# Altium footprint library trafo.PCBLIB: 80 footprints (part 1 of 5)
Each footprint in its own frame and in the unit in brackets; x right, y up, seen from the top. Pads: shape width x height; smd on the part's side, far side on the other; paste and mask are expansions set on the pad; w line width, h text height; cw(c..) or ccw(c..) is an arc to the next point about the centre after c.
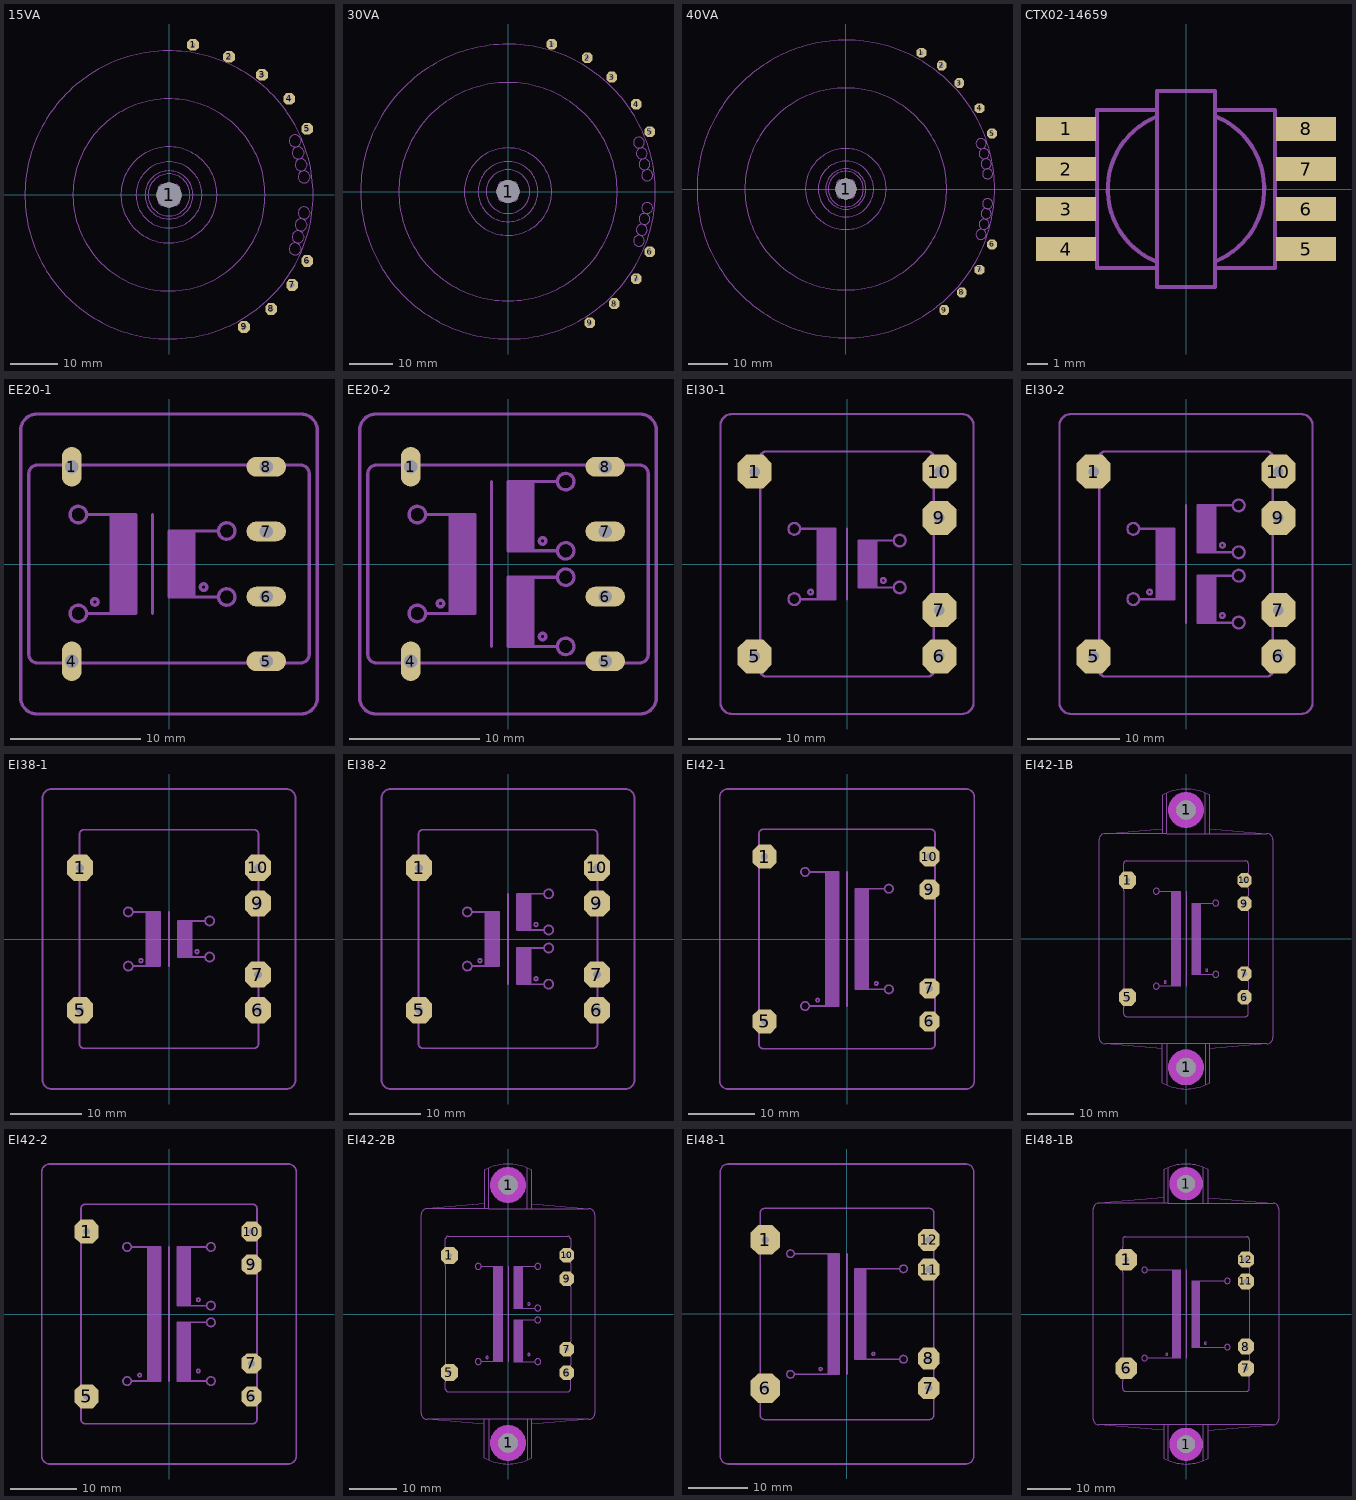
[diagram p0: the footprints below, top view; thin cyan lines are the x and y axes]

## 15VA [mil]
pads (10):
  round 209 hole 209: 1(0,0)
  oct 96.82x96.82 hole 40: 1(200,1250) 2(500,1150) 3(775,1000) 4(1000,800) 5(1150,550) 6(1150,-550) 7(1025,-750) 8(850,-950) 9(625,-1100)
Mechanical 2:
  circle w6: c0,0 r400
  circle w6: c0,0 r275
  circle w6: c0,0 r1200
  circle w6: c0,0 r800
Mechanical 18:
  circle w10: c0,0 r200
  circle w6: c0,0 r175
  circle w6: c1050,450 r50
  circle w6: c1075,350 r50
  circle w6: c1100,250 r50
  circle w6: c1125,150 r50
  circle w6: c1050,-450 r50
  circle w6: c1125,-150 r50
  circle w6: c1100,-250 r50
  circle w6: c1075,-350 r50
  lines w6: -90,-65 -65,-90 ; -90,-65 -50,0 ; -90,-65 -45,-30 ; -90,65 -65,90 ; -90,65 -50,0 ; -90,65 -45,30 ; -65,-90 0,-50 ; -65,-90 -30,-45 ; -65,90 0,50 ; -65,90 -30,45 ; -50,0 -25,0 ; -45,-30 -25,0 ; -45,-30 -30,-45 ; -45,30 -25,0 ; -45,30 -30,45 ; -30,-45 0,-25 ; -30,45 0,25 ; 0,-50 65,-90 ; 0,-50 0,-25 ; 0,-25 30,-45 ; 0,25 0,50 ; 0,25 30,45 ; 0,50 65,90 ; 25,0 50,0 ; 25,0 45,-30 ; 25,0 45,30 ; 30,-45 65,-90 ; 30,-45 45,-30 ; 30,45 65,90 ; 30,45 45,30 ; 45,-30 90,-65 ; 45,30 90,65 ; 50,0 90,-65 ; 50,0 90,65 ; 65,-90 90,-65 ; 65,90 90,65

## 30VA [mil]
pads (10):
  round 209 hole 209: 1(0,0)
  oct 96.82x96.82 hole 40: 1(400,1350) 2(725,1225) 3(950,1050) 4(1175,800) 5(1300,550) 6(1300,-550) 7(1175,-800) 8(975,-1025) 9(750,-1200)
Mechanical 2:
  circle w6: c0,0 r1000
  circle w6: c0,0 r400
  circle w6: c0,0 r275
  circle w6: c0,0 r1350
Mechanical 18:
  circle w10: c0,0 r200
  circle w6: c1200,450 r50
  circle w6: c1225,350 r50
  circle w6: c1250,250 r50
  circle w6: c1275,150 r50
  circle w6: c1200,-450 r50
  circle w6: c1275,-150 r50
  circle w6: c1250,-250 r50
  circle w6: c1225,-350 r50
  lines w6: -90,-65 -65,-90 ; -90,-65 -50,0 ; -90,-65 -45,-30 ; -90,65 -65,90 ; -90,65 -50,0 ; -90,65 -45,30 ; -65,-90 0,-50 ; -65,-90 -30,-45 ; -65,90 0,50 ; -65,90 -30,45 ; -50,0 -25,0 ; -45,-30 -25,0 ; -45,-30 -30,-45 ; -45,30 -25,0 ; -45,30 -30,45 ; -30,-45 0,-25 ; -30,45 0,25 ; 0,-50 65,-90 ; 0,-50 0,-25 ; 0,-25 30,-45 ; 0,25 0,50 ; 0,25 30,45 ; 0,50 65,90 ; 25,0 50,0 ; 25,0 45,-30 ; 25,0 45,30 ; 30,-45 65,-90 ; 30,-45 45,-30 ; 30,45 65,90 ; 30,45 45,30 ; 45,-30 90,-65 ; 45,30 90,65 ; 50,0 90,-65 ; 50,0 90,65 ; 65,-90 90,-65 ; 65,90 90,65

## 40VA [mil]
pads (10):
  round 209 hole 209: 1(0,0)
  oct 96.82x96.82 hole 40: 1(750,1350) 2(950,1225) 3(1125,1050) 4(1325,800) 5(1450,550) 6(1450,-550) 7(1325,-800) 8(1150,-1025) 9(975,-1200)
Mechanical 2:
  circle w6: c0,0 r1000
  circle w6: c0,0 r400
  circle w6: c0,0 r275
  circle w6: c0,0 r1475
Mechanical 18:
  circle w10: c0,0 r200
  circle w6: c0,0 r175
  circle w6: c1340,450 r50
  circle w6: c1370,350 r50
  circle w6: c1390,250 r50
  circle w6: c1405,150 r50
  circle w6: c1340,-450 r50
  circle w6: c1405,-145 r50
  circle w6: c1390,-245 r50
  circle w6: c1370,-350 r50
  lines w6: -90,-65 -65,-90 ; -90,-65 -50,0 ; -90,-65 -45,-30 ; -90,65 -65,90 ; -90,65 -50,0 ; -90,65 -45,30 ; -65,-90 0,-50 ; -65,-90 -30,-45 ; -65,90 0,50 ; -65,90 -30,45 ; -50,0 -25,0 ; -45,-30 -25,0 ; -45,-30 -30,-45 ; -45,30 -25,0 ; -45,30 -30,45 ; -30,-45 0,-25 ; -30,45 0,25 ; 0,-50 65,-90 ; 0,-50 0,-25 ; 0,-25 30,-45 ; 0,25 0,50 ; 0,25 30,45 ; 0,50 65,90 ; 25,0 50,0 ; 25,0 45,-30 ; 25,0 45,30 ; 30,-45 65,-90 ; 30,-45 45,-30 ; 30,45 65,90 ; 30,45 45,30 ; 45,-30 90,-65 ; 45,30 90,65 ; 50,0 90,-65 ; 50,0 90,65 ; 65,-90 90,-65 ; 65,90 90,65

## CTX02-14659 [mm]
pads (8):
  rect 3x1.2 smd: 1(-6,3) 2(-6,1) 3(-6,-1) 4(-6,-3) 5(6,-3) 6(6,-1) 7(6,1) 8(6,3)
Mechanical 2:
  lines w0.203: -4.45,-3.95 -1.55,-3.95 ; -4.45,3.95 -1.45,3.95 ; 1.55,-3.95 4.45,-3.95 ; 4.45,3.95 1.45,3.95 ; -1.45,3.95 -1.45,-4.9 1.45,-4.9 1.45,3.95 ; -1.45,3.95 -1.45,4.9 1.45,4.9 1.45,3.95
Mechanical 18:
  rectangle: -6,2.725 -4.5,3.275
  rectangle: -6,0.725 -4.5,1.275
  rectangle: -6,-1.275 -4.5,-0.725
  rectangle: -6,-3.275 -4.5,-2.725
  region: 6,-2.725 4.5,-2.725 4.5,-3.275 6,-3.275
  region: 6,-0.725 4.5,-0.725 4.5,-1.275 6,-1.275
  region: 6,1.275 4.5,1.275 4.5,0.725 6,0.725
  region: 6,3.275 4.5,3.275 4.5,2.725 6,2.725
  lines w0.203: -4.45,-3.95 -4.45,3.95 ; -1.5,-3.625 cw(c0,-0.01) -1.45,3.625 ; 1.45,-3.625 ccw(c0,0.01) 1.5,3.625 ; 4.45,-3.95 4.45,3.95

## EE20-1 [mil]
pads (6):
  oval 60x120 hole 40: 1(-295,295) 4(-295,-295)
  oval 120x60 hole 40: 5(295,-295) 6(295,-99) 7(295,99) 8(295,295)
Mechanical 2:
  circle w10: c-225,-115 r10
  circle w10: c-275,150 r25
  circle w10: c-275,-150 r25
  circle w10: c105,-70 r10
  circle w10: c175,-100 r25
  circle w10: c175,100 r25
  rectangle: -175,-150 -100,150
  rectangle: 0,-100 75,100
  lines w10: -375,-300 -400,-300 cw(c-400,-275) -425,-275 -425,275 cw(c-400,275) -400,300 -375,300 ; -250,-150 -175,-150 ; -250,150 -175,150 ; -215,-300 215,-300 ; -215,300 215,300 ; -50,-150 -50,150 ; 150,-100 75,-100 ; 150,100 75,100 ; 375,-300 400,-300 ccw(c400,-275) 425,-275 425,275 ccw(c400,275) 400,300 375,300 ; -175,-150 -175,150 ; -175,-150 -100,-150 -100,150 -175,150 ; 75,-100 0,-100 0,100 75,100 ; 75,-100 75,100 ; -450,-405 ccw(c-400,-405) -400,-455 400,-455 ccw(c400,-405) 450,-405 450,405 ccw(c400,405) 400,455 -400,455 ccw(c-400,405) -450,405 -450,-405
Mechanical 18:
  lines w10: -375,-300 -215,-300 ; -375,300 -215,300 ; 215,-300 375,-300 ; 215,300 375,300

## EE20-2 [mil]
pads (6):
  oval 60x120 hole 40: 1(-295,295) 4(-295,-295)
  oval 120x60 hole 40: 5(295,-295) 6(295,-99) 7(295,99) 8(295,295)
Mechanical 2:
  circle w10: c-205,-120 r10
  circle w10: c105,70 r10
  circle w10: c-275,150 r25
  circle w10: c-275,-150 r25
  circle w10: c175,40 r25
  circle w10: c175,250 r25
  circle w10: c105,-220 r10
  circle w10: c175,-250 r25
  circle w10: c175,-40 r25
  rectangle: -175,-150 -100,150
  rectangle: 0,-250 75,-40
  rectangle: 0,40 75,250
  lines w10: -375,-300 -400,-300 cw(c-400,-275) -425,-275 -425,275 cw(c-400,275) -400,300 -375,300 ; -250,-150 -175,-150 ; -250,150 -175,150 ; -215,-300 215,-300 ; -215,300 215,300 ; -50,-250 -50,250 ; 150,-250 75,-250 ; 150,-40 75,-40 ; 150,40 75,40 ; 150,250 75,250 ; 375,-300 400,-300 ccw(c400,-275) 425,-275 425,275 ccw(c400,275) 400,300 375,300 ; -175,-150 -175,150 ; -175,-150 -100,-150 -100,150 -175,150 ; 75,-250 0,-250 0,-40 75,-40 ; 75,-250 75,-40 ; 75,40 0,40 0,250 75,250 ; 75,40 75,250 ; -450,-405 ccw(c-400,-405) -400,-455 400,-455 ccw(c400,-405) 450,-405 450,405 ccw(c400,405) 400,455 -400,455 ccw(c-400,405) -450,405 -450,-405
Mechanical 18:
  lines w10: -375,-300 -215,-300 ; -375,300 -215,300 ; 215,-300 375,-300 ; 215,300 375,300

## EI30-1 [mil]
pads (6):
  oct 145.24x145.24 hole 44: 1(-394,394) 5(-394,-394) 6(394,-394) 7(394,-197) 9(394,197) 10(394,394)
Mechanical 2:
  circle w10: c-155,-120 r10
  circle w10: c155,-70 r10
  circle w10: c-225,150 r25
  circle w10: c-225,-150 r25
  circle w10: c225,-100 r25
  circle w10: c225,100 r25
  rectangle: -125,-150 -50,150
  rectangle: 50,-100 125,100
  lines w10: -370,-310 -370,310 ; -345,-480 345,-480 ; -345,480 345,480 ; -200,-150 -125,-150 ; -200,150 -125,150 ; 0,-150 0,150 ; 200,-100 125,-100 ; 200,100 125,100 ; 370,-315 370,-280 ; 370,-115 370,115 ; 370,280 370,310 ; -125,-150 -125,150 ; -125,-150 -50,-150 -50,150 -125,150 ; 125,-100 50,-100 50,100 125,100 ; 125,-100 125,100 ; -540,-590 ccw(c-490,-590) -490,-640 490,-640 ccw(c490,-590) 540,-590 540,590 ccw(c490,590) 490,640 -490,640 ccw(c-490,590) -540,590 -540,-590
Mechanical 18:
  lines w10: -370,-310 -370,-455 ccw(c-345,-455) -345,-480 ; -370,310 -370,455 cw(c-345,455) -345,480 ; 345,-480 ccw(c345,-455) 370,-455 370,-315 ; 345,480 cw(c345,455) 370,455 370,310 ; 370,-280 370,-115 ; 370,115 370,280

## EI30-2 [mil]
pads (6):
  oct 145.24x145.24 hole 44: 1(-394,394) 5(-394,-394) 6(394,-394) 7(394,-197) 9(394,197) 10(394,394)
Mechanical 2:
  circle w10: c-155,-120 r10
  circle w10: c155,80 r10
  circle w10: c-225,150 r25
  circle w10: c-225,-150 r25
  circle w10: c225,50 r25
  circle w10: c225,250 r25
  circle w10: c155,-220 r10
  circle w10: c225,-250 r25
  circle w10: c225,-50 r25
  rectangle: -125,-150 -50,150
  rectangle: 50,50 125,250
  rectangle: 50,-250 125,-50
  lines w10: -370,-310 -370,310 ; -345,-480 345,-480 ; -345,480 345,480 ; -200,-150 -125,-150 ; -200,150 -125,150 ; 0,-250 0,250 ; 200,-250 125,-250 ; 200,-50 125,-50 ; 200,50 125,50 ; 200,250 125,250 ; 370,-315 370,-280 ; 370,-115 370,115 ; 370,280 370,310 ; -125,-150 -125,150 ; -125,-150 -50,-150 -50,150 -125,150 ; 125,-250 50,-250 50,-50 125,-50 ; 125,-250 125,-50 ; 125,50 50,50 50,250 125,250 ; 125,50 125,250 ; -540,-590 ccw(c-490,-590) -490,-640 490,-640 ccw(c490,-590) 540,-590 540,590 ccw(c490,590) 490,640 -490,640 ccw(c-490,590) -540,590 -540,-590
Mechanical 18:
  lines w10: -370,-310 -370,-455 ccw(c-345,-455) -345,-480 ; -370,310 -370,455 cw(c-345,455) -345,480 ; 345,-480 ccw(c345,-455) 370,-455 370,-315 ; 345,480 cw(c345,455) 370,455 370,310 ; 370,-280 370,-115 ; 370,115 370,280

## EI38-1 [mil]
pads (6):
  oct 145.24x145.24 hole 44: 1(-492,394) 5(-492,-394) 6(492,-394) 7(492,-197) 9(492,197) 10(492,394)
Mechanical 2:
  circle w10: c-155,-120 r10
  circle w10: c-225,150 r25
  circle w10: c-225,-150 r25
  circle w10: c155,-70 r10
  circle w10: c225,-100 r25
  circle w10: c225,100 r25
  rectangle: -125,-150 -50,150
  rectangle: 50,-100 125,100
  lines w10: -495,-475 -495,-580 ccw(c-470,-580) -470,-605 470,-605 ccw(c470,-580) 495,-580 495,-480 ; -495,-310 -495,310 ; -495,480 -495,580 cw(c-470,580) -470,605 470,605 cw(c470,580) 495,580 495,480 ; -200,-150 -125,-150 ; -200,150 -125,150 ; 0,-150 0,150 ; 200,-100 125,-100 ; 200,100 125,100 ; 495,-315 495,-280 ; 495,-115 495,115 ; 495,280 495,310 ; -125,-150 -125,150 ; -125,-150 -50,-150 -50,150 -125,150 ; 125,-100 50,-100 50,100 125,100 ; 125,-100 125,100 ; -700,-780 ccw(c-650,-780) -650,-830 650,-830 ccw(c650,-780) 700,-780 700,780 ccw(c650,780) 650,830 -650,830 ccw(c-650,780) -700,780 -700,-780
Mechanical 18:
  lines w10: -495,-475 -495,-310 ; -495,310 -495,480 ; 495,-480 495,-315 ; 495,-280 495,-115 ; 495,115 495,280 ; 495,310 495,480

## EI38-2 [mil]
pads (6):
  oct 145.24x145.24 hole 44: 1(-492,394) 5(-492,-394) 6(492,-394) 7(492,-197) 9(492,197) 10(492,394)
Mechanical 2:
  circle w10: c-155,-120 r10
  circle w10: c155,80 r10
  circle w10: c-225,150 r25
  circle w10: c-225,-150 r25
  circle w10: c225,50 r25
  circle w10: c225,250 r25
  circle w10: c155,-220 r10
  circle w10: c225,-250 r25
  circle w10: c225,-50 r25
  rectangle: -125,-150 -50,150
  rectangle: 50,50 125,250
  rectangle: 50,-250 125,-50
  lines w10: -495,-475 -495,-580 ccw(c-470,-580) -470,-605 470,-605 ccw(c470,-580) 495,-580 495,-480 ; -495,-310 -495,310 ; -495,480 -495,580 cw(c-470,580) -470,605 470,605 cw(c470,580) 495,580 495,480 ; -200,-150 -125,-150 ; -200,150 -125,150 ; 0,-250 0,250 ; 200,-250 125,-250 ; 200,-50 125,-50 ; 200,50 125,50 ; 200,250 125,250 ; 495,-315 495,-280 ; 495,-115 495,115 ; 495,280 495,310 ; -125,-150 -125,150 ; -125,-150 -50,-150 -50,150 -125,150 ; 125,-250 50,-250 50,-50 125,-50 ; 125,-250 125,-50 ; 125,50 50,50 50,250 125,250 ; 125,50 125,250 ; -700,-780 ccw(c-650,-780) -650,-830 650,-830 ccw(c650,-780) 700,-780 700,780 ccw(c650,780) 650,830 -650,830 ccw(c-650,780) -700,780 -700,-780
Mechanical 18:
  lines w10: -495,-475 -495,-310 ; -495,310 -495,480 ; 495,-480 495,-315 ; 495,-280 495,-115 ; 495,115 495,280 ; 495,310 495,480

## EI42-1 [mil]
pads (6):
  oct 145.24x145.24 hole 44: 1(-492,492) 5(-492,-492)
  oct 121.03x121.03 hole 44: 6(492,-492) 7(492,-295) 9(492,295) 10(492,492)
Mechanical 2:
  circle w10: c-175,-365 r10
  circle w10: c175,-265 r10
  circle w10: c-250,400 r25
  circle w10: c-250,-400 r25
  circle w10: c250,-300 r25
  circle w10: c250,300 r25
  rectangle: -125,-400 -50,400
  rectangle: 50,-300 125,300
  lines w10: -525,-575 -525,-630 ccw(c-500,-630) -500,-655 500,-655 ccw(c500,-630) 525,-630 525,-560 ; -525,-405 -525,405 ; -525,575 -525,630 cw(c-500,630) -500,655 500,655 cw(c500,630) 525,630 525,560 ; -225,-400 -125,-400 ; -225,400 -125,400 ; 0,-400 0,400 ; 225,-300 125,-300 ; 225,300 125,300 ; 525,-425 525,-360 ; 525,-230 525,230 ; 525,360 525,425 ; -125,-400 -125,400 ; -125,-400 -50,-400 -50,400 -125,400 ; 125,-300 50,-300 50,300 125,300 ; 125,-300 125,300 ; -760,-845 ccw(c-710,-845) -710,-895 710,-895 ccw(c710,-845) 760,-845 760,845 ccw(c710,845) 710,895 -710,895 ccw(c-710,845) -760,845 -760,-845
Mechanical 18:
  lines w10: -525,-575 -525,-405 ; -525,405 -525,575 ; 525,-560 525,-425 ; 525,-360 525,-230 ; 525,230 525,360 ; 525,425 525,560

## EI42-1B [mil]
pads (8):
  oct 145.24x145.24 hole 44: 1(-492,492) 5(-492,-492)
  round 162 hole 162: 1(0,-1083) 1(0,1083)
  oct 121.03x121.03 hole 44: 6(492,-492) 7(492,-295) 9(492,295) 10(492,492)
Mechanical 2:
  circle w10: c-175,-365 r10
  circle w10: c175,-265 r10
  circle w10: c-250,400 r25
  circle w10: c-250,-400 r25
  circle w10: c250,-300 r25
  circle w10: c250,300 r25
  rectangle: -125,-400 -50,400
  rectangle: 50,-300 125,300
  lines w10: -525,-575 -525,-630 ccw(c-500,-630) -500,-655 500,-655 ccw(c500,-630) 525,-630 525,-560 ; -525,-405 -525,405 ; -525,575 -525,630 cw(c-500,630) -500,655 500,655 cw(c500,630) 525,630 525,560 ; -225,-400 -125,-400 ; -225,400 -125,400 ; -160,-1230 -160,-885 ; -160,1225 -160,885 ; 0,-400 0,400 ; 160,-1230 160,-885 ; 160,1225 160,885 ; 225,-300 125,-300 ; 225,300 125,300 ; 525,-425 525,-360 ; 525,-230 525,230 ; 525,360 525,425 ; -680,-885 cw(c-680,-835) -730,-835 -730,835 cw(c-680,835) -680,885 ; -680,-885 -200,-885 ; -680,-885 -200,-925 ; -680,885 -200,885 ; -680,885 -200,925 ; -200,-925 -200,-1211 ccw(c0,-865) 200,-1211 200,-925 ; -200,-925 -200,-885 ; -200,-885 -160,-885 ; -200,885 -160,885 ; -200,885 -200,925 ; -200,925 -200,1206 cw(c0,860) 200,1206 200,925 ; -160,-885 160,-885 ; -160,885 160,885 ; -125,-400 -125,400 ; -125,-400 -50,-400 -50,400 -125,400 ; 125,-300 50,-300 50,300 125,300 ; 125,-300 125,300 ; 160,-885 200,-885 ; 160,885 200,885 ; 200,-925 680,-885 ; 200,-925 200,-885 ; 200,-885 680,-885 ; 200,885 200,925 ; 200,885 680,885 ; 200,925 680,885 ; 680,-885 ccw(c680,-835) 730,-835 730,835 ccw(c680,835) 680,885
Mechanical 11 keep-out:
  circle w70: c0,-1083 r115
  circle w70: c0,1083 r115
Mechanical 12:
  circle w70: c0,-1083 r115
  circle w70: c0,1083 r115
Mechanical 18:
  lines w10: -525,-575 -525,-405 ; -525,405 -525,575 ; 525,-560 525,-425 ; 525,-360 525,-230 ; 525,230 525,360 ; 525,425 525,560

## EI42-2 [mil]
pads (6):
  oct 145.24x145.24 hole 44: 1(-492,492) 5(-492,-492)
  oct 121.03x121.03 hole 44: 6(492,-492) 7(492,-295) 9(492,295) 10(492,492)
Mechanical 2:
  circle w10: c-175,-365 r10
  circle w10: c175,85 r10
  circle w10: c-250,400 r25
  circle w10: c-250,-400 r25
  circle w10: c250,50 r25
  circle w10: c250,400 r25
  circle w10: c250,-50 r25
  circle w10: c250,-400 r25
  circle w10: c175,-340 r10
  rectangle: -125,-400 -50,400
  rectangle: 50,-400 125,-50
  rectangle: 50,50 125,400
  lines w10: -525,-575 -525,-630 ccw(c-500,-630) -500,-655 500,-655 ccw(c500,-630) 525,-630 525,-560 ; -525,-405 -525,405 ; -525,575 -525,630 cw(c-500,630) -500,655 500,655 cw(c500,630) 525,630 525,560 ; -225,-400 -125,-400 ; -225,400 -125,400 ; 0,-400 0,400 ; 225,-400 125,-400 ; 225,-50 125,-50 ; 225,50 125,50 ; 225,400 125,400 ; 525,-425 525,-360 ; 525,-230 525,230 ; 525,360 525,425 ; -125,-400 -125,400 ; -125,-400 -50,-400 -50,400 -125,400 ; 125,-400 50,-400 50,-50 125,-50 ; 125,-400 125,-50 ; 125,50 50,50 50,400 125,400 ; 125,50 125,400 ; -760,-845 ccw(c-710,-845) -710,-895 710,-895 ccw(c710,-845) 760,-845 760,845 ccw(c710,845) 710,895 -710,895 ccw(c-710,845) -760,845 -760,-845
Mechanical 18:
  lines w10: -525,-575 -525,-405 ; -525,405 -525,575 ; 525,-560 525,-425 ; 525,-360 525,-230 ; 525,230 525,360 ; 525,425 525,560

## EI42-2B [mil]
pads (8):
  oct 145.24x145.24 hole 44: 1(-492,492) 5(-492,-492)
  round 162 hole 162: 1(0,-1083) 1(0,1083)
  oct 121.03x121.03 hole 44: 6(492,-492) 7(492,-295) 9(492,295) 10(492,492)
Mechanical 2:
  circle w10: c-175,-365 r10
  circle w10: c175,85 r10
  circle w10: c-250,400 r25
  circle w10: c-250,-400 r25
  circle w10: c250,50 r25
  circle w10: c250,400 r25
  circle w10: c250,-50 r25
  circle w10: c250,-400 r25
  circle w10: c175,-340 r10
  rectangle: -125,-400 -50,400
  rectangle: 50,-400 125,-50
  rectangle: 50,50 125,400
  lines w10: -525,-575 -525,-630 ccw(c-500,-630) -500,-655 500,-655 ccw(c500,-630) 525,-630 525,-560 ; -525,-405 -525,405 ; -525,575 -525,630 cw(c-500,630) -500,655 500,655 cw(c500,630) 525,630 525,560 ; -225,-400 -125,-400 ; -225,400 -125,400 ; -160,-1225 -160,-885 ; -160,1225 -160,885 ; 0,-400 0,400 ; 160,-1225 160,-885 ; 160,1225 160,885 ; 225,-400 125,-400 ; 225,-50 125,-50 ; 225,50 125,50 ; 225,400 125,400 ; 525,-425 525,-360 ; 525,-230 525,230 ; 525,360 525,425 ; -680,-885 cw(c-680,-835) -730,-835 -730,835 cw(c-680,835) -680,885 ; -680,-885 -200,-885 ; -680,-885 -200,-925 ; -680,885 -200,885 ; -680,885 -200,925 ; -200,-925 -200,-1206 ccw(c0,-860) 200,-1206 200,-925 ; -200,-925 -200,-885 ; -200,-885 -160,-885 ; -200,885 -160,885 ; -200,885 -200,925 ; -200,925 -200,1206 cw(c0,860) 200,1206 200,925 ; -160,-885 160,-885 ; -160,885 160,885 ; -125,-400 -125,400 ; -125,-400 -50,-400 -50,400 -125,400 ; 125,-400 50,-400 50,-50 125,-50 ; 125,-400 125,-50 ; 125,50 50,50 50,400 125,400 ; 125,50 125,400 ; 160,-885 200,-885 ; 160,885 200,885 ; 200,-925 680,-885 ; 200,-925 200,-885 ; 200,-885 680,-885 ; 200,885 200,925 ; 200,885 680,885 ; 200,925 680,885 ; 680,-885 ccw(c680,-835) 730,-835 730,835 ccw(c680,835) 680,885
Mechanical 11 keep-out:
  circle w70: c0,-1083 r115
  circle w70: c0,1083 r115
Mechanical 12:
  circle w70: c0,-1083 r115
  circle w70: c0,1083 r115
Mechanical 18:
  lines w10: -525,-575 -525,-405 ; -525,405 -525,575 ; 525,-560 525,-425 ; 525,-360 525,-230 ; 525,230 525,360 ; 525,425 525,560

## EI48-1 [mil]
pads (6):
  oct 193.65x193.65 hole 47: 1(-542,492) 6(-542,-492)
  oct 145.24x145.24 hole 47: 7(542,-492) 8(542,-295) 11(542,295) 12(542,492)
Mechanical 2:
  circle w10: c-175,-365 r10
  circle w10: c175,-265 r10
  circle w10: c-375,400 r25
  circle w10: c-375,-400 r25
  circle w10: c375,-300 r25
  circle w10: c375,300 r25
  rectangle: -125,-400 -50,400
  rectangle: 50,-300 125,300
  lines w10: -575,-605 -575,-675 ccw(c-550,-675) -550,-700 550,-700 ccw(c550,-675) 575,-675 575,-570 ; -575,-380 -575,380 ; -575,605 -575,675 cw(c-550,675) -550,700 550,700 cw(c550,675) 575,675 575,570 ; -350,-400 -125,-400 ; -350,400 -125,400 ; 0,-400 0,400 ; 350,-300 125,-300 ; 350,300 125,300 ; 575,-415 575,-370 ; 575,-220 575,220 ; 575,370 575,415 ; 840,945 ccw(c790,945) 790,995 -790,995 ccw(c-790,945) -840,945 -840,-945 ccw(c-790,-945) -790,-995 790,-995 ccw(c790,-945) 840,-945 840,955 ; -125,-400 -125,400 ; -125,-400 -50,-400 -50,400 -125,400 ; 125,-300 50,-300 50,300 125,300 ; 125,-300 125,300
Mechanical 18:
  lines w10: -575,-605 -575,-380 ; -575,380 -575,605 ; 575,-570 575,-415 ; 575,-370 575,-220 ; 575,220 575,370 ; 575,415 575,570

## EI48-1B [mil]
pads (8):
  oct 193.65x193.65 hole 47: 1(-542,492) 6(-542,-492)
  round 162 hole 162: 1(0,-1181) 1(0,1181)
  oct 145.24x145.24 hole 47: 7(542,-492) 8(542,-295) 11(542,295) 12(542,492)
Mechanical 2:
  circle w10: c-175,-365 r10
  circle w10: c175,-265 r10
  circle w10: c-375,400 r25
  circle w10: c-375,-400 r25
  circle w10: c375,-300 r25
  circle w10: c375,300 r25
  rectangle: -125,-400 -50,400
  rectangle: 50,-300 125,300
  lines w10: -575,-605 -575,-675 ccw(c-550,-675) -550,-700 550,-700 ccw(c550,-675) 575,-675 575,-570 ; -575,-380 -575,380 ; -575,605 -575,675 cw(c-550,675) -550,700 550,700 cw(c550,675) 575,675 575,570 ; -350,-400 -125,-400 ; -350,400 -125,400 ; -160,-1325 -160,-1005 ; -160,1325 -160,1005 ; 0,-400 0,400 ; 155,-1325 155,-1005 ; 155,1325 155,1005 ; 350,-300 125,-300 ; 350,300 125,300 ; 575,-415 575,-370 ; 575,-220 575,220 ; 575,370 575,415 ; 795,-1005 200,-1055 ; -790,-1005 cw(c-790,-955) -840,-955 -840,955 cw(c-790,955) -790,1005 ; -790,-1005 -200,-1005 ; -790,-1005 -200,-1055 ; -790,1005 -200,1005 ; -790,1005 -200,1055 ; -200,-1055 -200,-1005 ; -200,-1055 -200,-1306 ccw(c0,-960) 200,-1306 200,-1055 ; -200,-1005 -160,-1005 ; -200,1005 -160,1005 ; -200,1005 -200,1055 ; -200,1055 -200,1306 cw(c0,960) 200,1306 200,1055 ; -160,-1005 155,-1005 ; -160,1005 155,1005 ; -125,-400 -125,400 ; -125,-400 -50,-400 -50,400 -125,400 ; 125,-300 50,-300 50,300 125,300 ; 125,-300 125,300 ; 155,-1005 200,-1005 ; 155,1005 200,1005 ; 200,-1055 200,-1005 ; 200,-1005 790,-1005 ccw(c790,-955) 840,-955 840,955 ccw(c790,955) 790,1005 ; 200,1005 200,1055 ; 200,1005 790,1005 ; 200,1055 790,1005
Mechanical 11 keep-out:
  circle w70: c0,-1181 r115
  circle w70: c0,1181 r115
Mechanical 12:
  circle w70: c0,-1181 r115
  circle w70: c0,1181 r115
Mechanical 18:
  lines w10: -575,-605 -575,-380 ; -575,380 -575,605 ; 575,-570 575,-415 ; 575,-370 575,-220 ; 575,220 575,370 ; 575,415 575,570